# EAGLE library part RF:PHASEDETECTOR(MINICIR_SYPD2) (library QuantumOptics)
Mini-Circuits SYPD-2 Passive RF
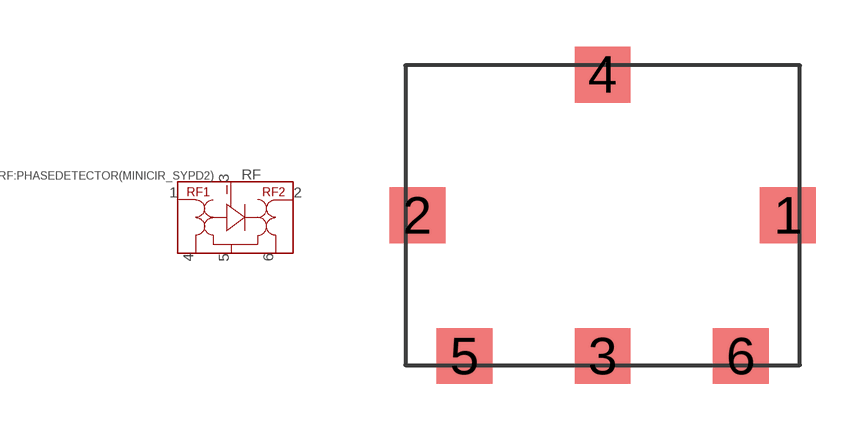
[diagram p142: symbol with the pads of RF:PHASEDETECTOR(MINICIR_SYPD2); footprint RF:PHASEDETECTOR(MINICIR_SYPD2)]

Designator prefix RF

## RF:PHASEDETECTOR(MINICIR_SYPD2)  [RF:PHASEDETECTOR(MINICIR_SYPD2)]
1  RF1
2  RF2
3  I
4  COM
5  COM
6  COM

## Footprint RF:PHASEDETECTOR(MINICIR_SYPD2) (pad centres in mm)
Mini-Circuits SYPD-2 Passive RF
smd 1.8 x 1.8: 1 5.97,0; 2 -5.97,0; 3 0,-4.53; 4 0,4.53; 5 -4.45,-4.53; 6 4.45,-4.53